# Altium schematic symbol library TPS61221DCKR.SchLib: 1 symbol
Pins are listed as number, name and electrical type; pins without a type are passive.

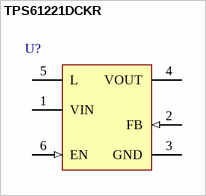
[diagram p0: symbol TPS61221DCKR]

## TPS61221DCKR
designator U?
pins: 1 VIN, 2 FB (in), 3 GND (power), 4 VOUT, 5 L, 6 EN (in)